# Altium schematic symbol library PWR_HDR_10P.SchLib: 1 symbol
Pins are listed as number, name and electrical type; pins without a type are passive.

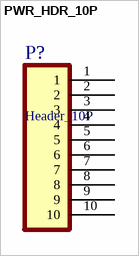
[diagram p0: symbol PWR_HDR_10P]

## PWR_HDR_10P
designator P?, comment Header_10P
pins: 1, 2, 3, 4, 5, 6, 7, 8, 9, 10